# EAGLE library part LTC1967 (library wheat)
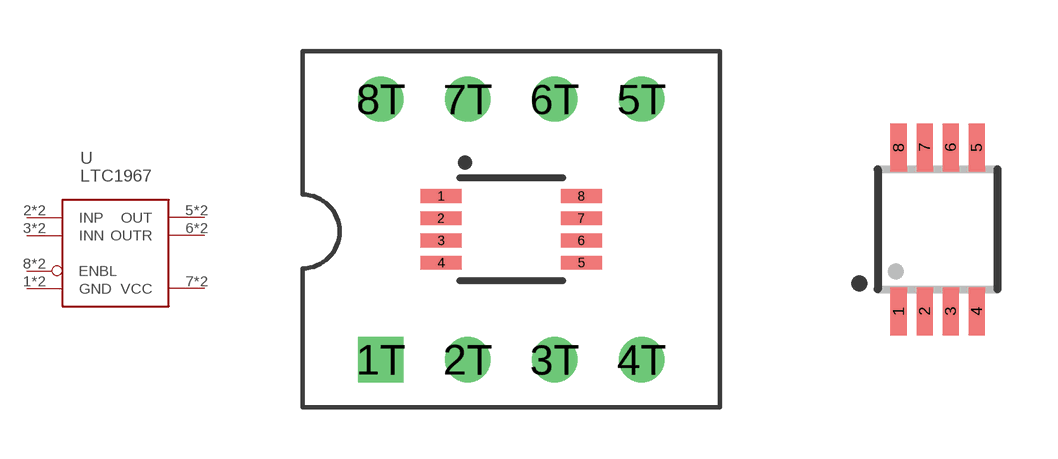
[diagram p172: symbol with the pads of MSOP8_DIP8; footprints MSOP8_DIP8, MSOP8]

Designator prefix U

## LTC1967  [MSOP8_DIP8]
1  GND
1T  GND
2  INP
2T  INP
3  INN
3T  INN
5  OUT
5T  OUT
6  OUTR
6T  OUTR
7  VCC
7T  VCC
8  ENBL
8T  ENBL

## LTC1967CMS8  [MSOP8]
1  GND
2  INP
3  INN
5  OUT
6  OUTR
7  VCC
8  ENBL

## Footprint MSOP8_DIP8 (pad centres in mm)
smd 1.2 x 0.4: 1 -2.05,0.975; 2 -2.05,0.325; 3 -2.05,-0.325; 4 -2.05,-0.975; 5 2.05,-0.975; 6 2.05,-0.325; 7 2.05,0.325; 8 2.05,0.975
drill 0.813 square: 1T -3.81,-3.81
drill 0.813: 2T -1.27,-3.81; 3T 1.27,-3.81; 4T 3.81,-3.81; 5T 3.81,3.81; 6T 1.27,3.81; 7T -1.27,3.81; 8T -3.81,3.81

## Footprint MSOP8 (pad centres in mm)
MSOP8
smd 0.4 x 1.2: 1 0.295,-2.05; 2 0.945,-2.05; 3 1.595,-2.05; 4 2.245,-2.05; 5 2.245,2.05; 6 1.595,2.05; 7 0.945,2.05; 8 0.295,2.05